# Altium integrated library NSC Amplifier.IntLib: 737 symbols (part 7 of 19)
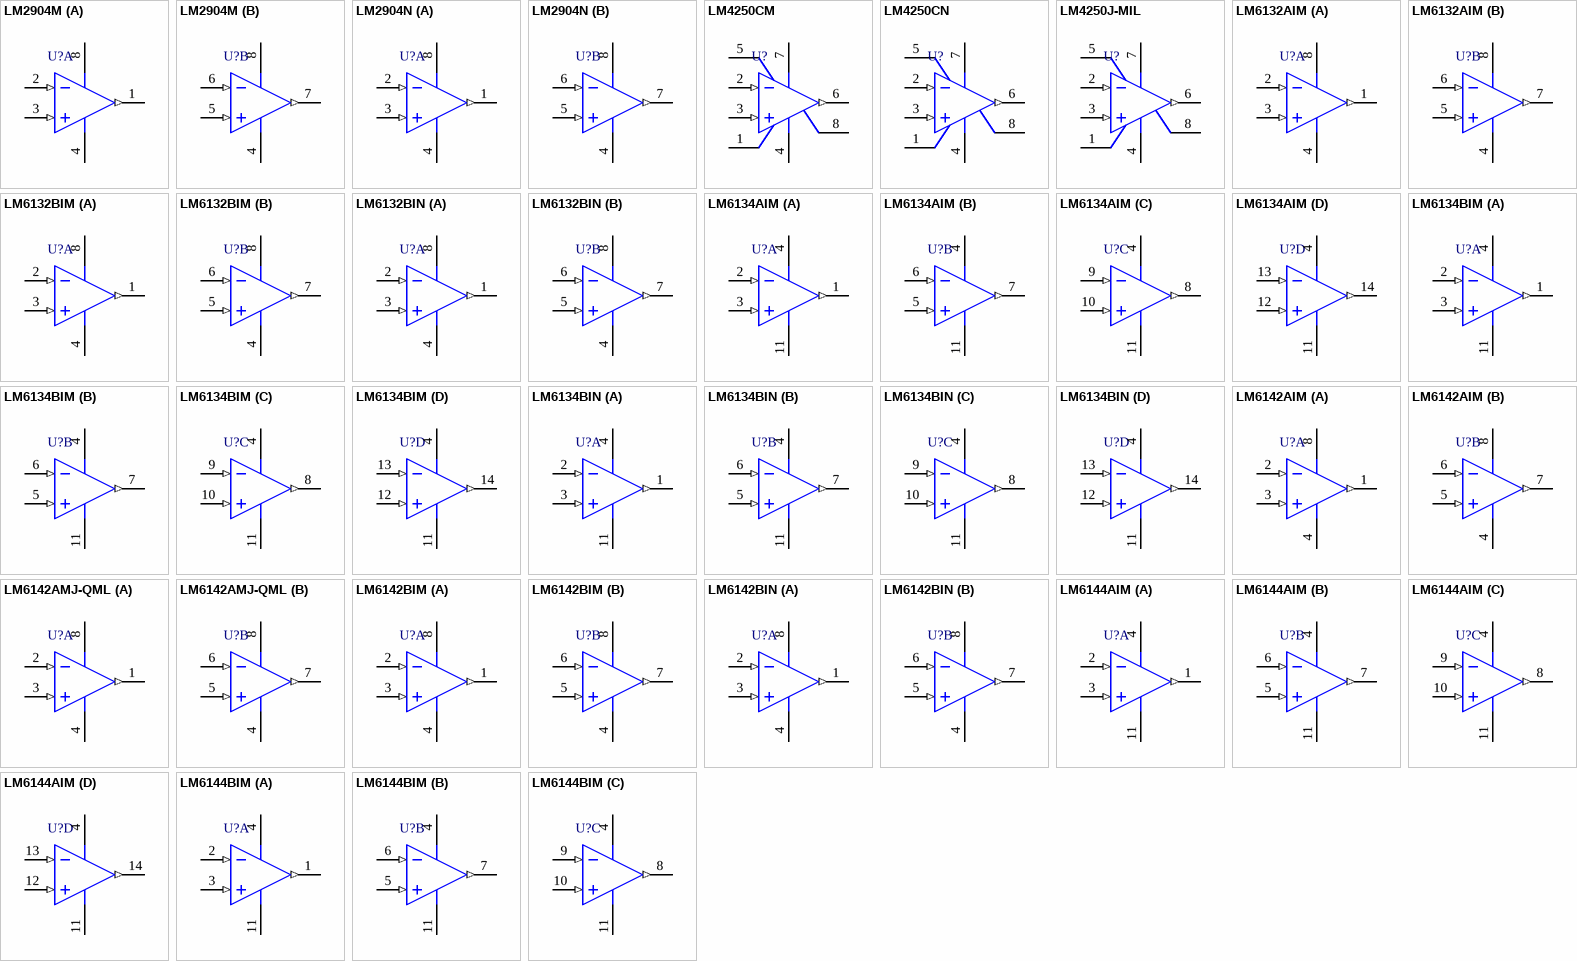
[diagram p45: symbols LM2904M to LM6144BIM]

## LM6142BIM
designator U?
Dual High Speed/Low Power 17 MHz Rail-to-Rail I/O Operational Amplifier; PartNumber: LM6142BIM; Manufacturer: National Semiconductor; CompType: Amplifiers; PackageTopMarking: NSZXTT*LM614*2BIM; PowerWise: N; Published: 4-Dec-2008; LatestRevisionDate: 13-Jan-2009; LatestRevisionNote: Sim Model Added.; DatasheetVersion: Nov-2004; PackageVersion: revL, Sep-2006; PackageReference: M08A; Publisher: Altium Limited; PackageDescription: SOIC Narrow, 4.9 x 3.9 x 1.45mm, 8 Lead, 1.27mm Pitch; RoHS: O; PinCount: 8; DigiKeyPartNumber: LM6142BIM-ND; Code_JEDEC: MS-012-AA; Code_IPC: SOIC127P600-8; ComponentLink1Description: LM6142 Datasheet; ComponentLink1URL: http://www.national.com/ds/LM/LM6142.pdf; ComponentLink2Description: LM6142 Web Page; ComponentLink2URL: http://www.national.com/pf/LM/LM6142.html; ComponentLink3Description: M08A Package Page; ComponentLink3URL: http://www.national.com/packaging/folders/m08a.html
footprint M08A_N (SOIC, 8-Leads, Body 4.9x3.9mm, Pitch 1.27mm, IPC Medium Density)
footprint M08A_L (SOIC, 8-Leads, Body 4.9x3.9mm, Pitch 1.27mm, IPC High Density)
footprint M08A_M (SOIC, 8-Leads, Body 4.9x3.9mm, Pitch 1.27mm, IPC Low Density)
simulation model LM6142B (SUBCKT)
pins on every part: 4 V- (power), 8 V+ (power)
part A pins: 1 OUTA (out), 2 INA- (in), 3 INA+ (in)
part B pins: 5 INB+ (in), 6 INB- (in), 7 OUTB (out)

## LM6142BIN
designator U?
Dual High Speed/Low Power 17 MHz Rail-to-Rail I/O Operational Amplifier; PartNumber: LM6142BIN; Manufacturer: National Semiconductor; CompType: Amplifiers; PackageTopMarking: NSUZXYTT*LM6142*BIN; PowerWise: N; Published: 4-Dec-2008; LatestRevisionDate: 13-Jan-2009; LatestRevisionNote: Sim Model Added.; DatasheetVersion: Nov-2004; PackageVersion: revG, May-2006; PackageReference: N08E; Publisher: Altium Limited; PackageDescription: MDIP, .365 x .250 x .130in, 8 Lead, .100in Pitch; RoHS: Y; PinCount: 8; DigiKeyPartNumber: LM6142BIN-ND; Code_JEDEC: MS-001-BA; ComponentLink1Description: LM6142 Datasheet; ComponentLink1URL: http://www.national.com/ds/LM/LM6142.pdf; ComponentLink2Description: LM6142 Web Page; ComponentLink2URL: http://www.national.com/pf/LM/LM6142.html; ComponentLink3Description: N08E Package Page; ComponentLink3URL: http://www.national.com/packaging/folders/n08e.html
footprint N08E (DIP, 8-Leads, Row Spacing 7.62mm, Pitch 2.54mm, Body 9.91x6.35mm)
simulation model LM6142B (SUBCKT)
pins on every part: 4 V- (power), 8 V+ (power)
part A pins: 1 OUTA (out), 2 INA- (in), 3 INA+ (in)
part B pins: 5 INB+ (in), 6 INB- (in), 7 OUTB (out)

## LM6144AIM
designator U?
Quad High Speed/Low Power 17 MHz Rail-to-Rail I/O Operational Amplifier; PartNumber: LM6144AIM; Manufacturer: National Semiconductor; CompType: Amplifiers; PackageTopMarking: NSUZXYTT*LM6144*AIM; PowerWise: N; Published: 4-Dec-2008; LatestRevisionDate: 13-Jan-2009; LatestRevisionNote: Sim Model Added.; DatasheetVersion: Nov-2004; PackageVersion: revJ, Jan-1996; PackageReference: M14A; Publisher: Altium Limited; PackageDescription: Molded Package S.O., .150in Wide, 14 Lead; RoHS: O; PinCount: 14; DigiKeyPartNumber: LM6144AIM-ND; Code_JEDEC: MS-012AB; Code_IPC: SOIC127P600-14; ComponentLink1Description: LM6144 Datasheet; ComponentLink1URL: http://www.national.com/ds/LM/LM6144.pdf; ComponentLink2Description: LM6144 Web Page; ComponentLink2URL: http://www.national.com/pf/LM/LM6144.html; ComponentLink3Description: M14A Package Page; ComponentLink3URL: http://www.national.com/packaging/folders/m14a.html
footprint M14A_N (SOIC, 14-Leads, Body 8.6x3.9mm, Pitch 1.27mm, IPC Medium Density)
footprint M14A_L (SOIC, 14-Leads, Body 8.6x3.9mm, Pitch 1.27mm, IPC High Density)
footprint M14A_M (SOIC, 14-Leads, Body 8.6x3.9mm, Pitch 1.27mm, IPC Low Density)
simulation model LM6142A (SUBCKT)
pins on every part: 4 V+ (power), 11 V- (power)
part A pins: 1 OUTA (out), 2 INA- (in), 3 INA+ (in)
part B pins: 5 INB+ (in), 6 INB- (in), 7 OUTB (out)
part C pins: 8 OUTC (out), 9 INC- (in), 10 INC+ (in)
part D pins: 12 IND+ (in), 13 IND- (in), 14 OUTD (out)

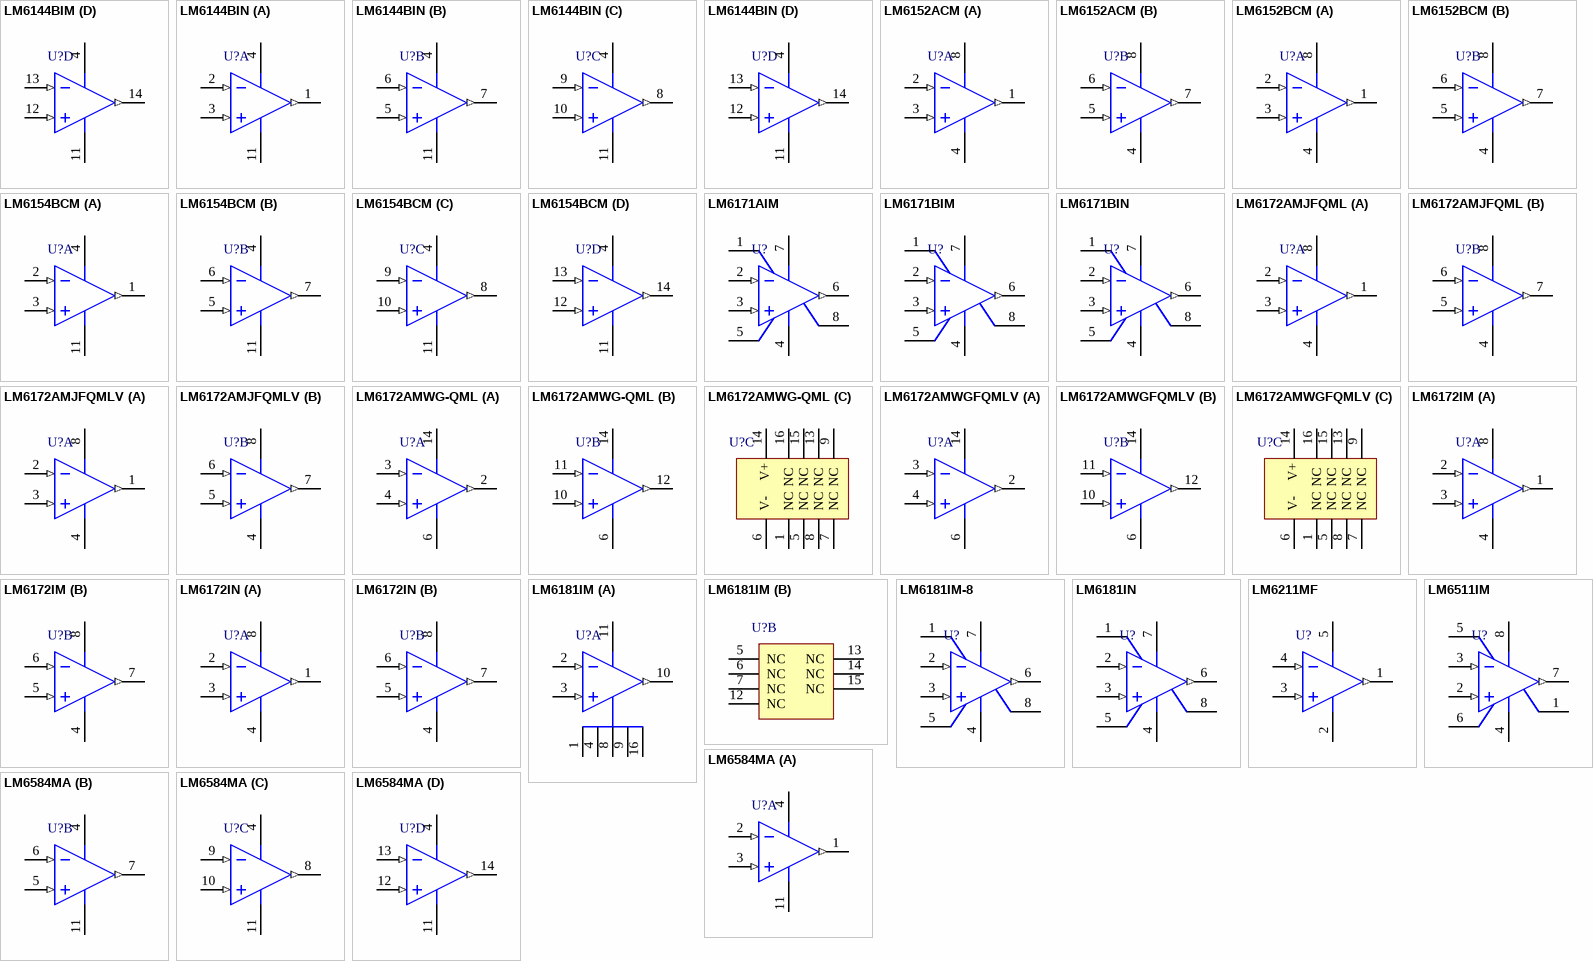
[diagram p16: symbols LM6144BIM to LM6584MA]

## LM6144BIM
designator U?
Quad High Speed/Low Power 17 MHz Rail-to-Rail I/O Operational Amplifier; PartNumber: LM6144BIM; Manufacturer: National Semiconductor; CompType: Amplifiers; PackageTopMarking: NSUZXYTT*LM6144*BIM; PowerWise: N; Published: 4-Dec-2008; LatestRevisionDate: 13-Jan-2009; LatestRevisionNote: Sim Model Added.; DatasheetVersion: Nov-2004; PackageVersion: revJ, Jan-1996; PackageReference: M14A; Publisher: Altium Limited; PackageDescription: Molded Package S.O., .150in Wide, 14 Lead; RoHS: O; PinCount: 14; DigiKeyPartNumber: LM6144BIM-ND; Code_JEDEC: MS-012AB; Code_IPC: SOIC127P600-14; ComponentLink1Description: LM6144 Datasheet; ComponentLink1URL: http://www.national.com/ds/LM/LM6144.pdf; ComponentLink2Description: LM6144 Web Page; ComponentLink2URL: http://www.national.com/pf/LM/LM6144.html; ComponentLink3Description: M14A Package Page; ComponentLink3URL: http://www.national.com/packaging/folders/m14a.html
footprint M14A_N (SOIC, 14-Leads, Body 8.6x3.9mm, Pitch 1.27mm, IPC Medium Density)
footprint M14A_L (SOIC, 14-Leads, Body 8.6x3.9mm, Pitch 1.27mm, IPC High Density)
footprint M14A_M (SOIC, 14-Leads, Body 8.6x3.9mm, Pitch 1.27mm, IPC Low Density)
simulation model LM6142B (SUBCKT)
pins on every part: 4 V+ (power), 11 V- (power)
part A pins: 1 OUTA (out), 2 INA- (in), 3 INA+ (in)
part B pins: 5 INB+ (in), 6 INB- (in), 7 OUTB (out)
part C pins: 8 OUTC (out), 9 INC- (in), 10 INC+ (in)
part D pins: 12 IND+ (in), 13 IND- (in), 14 OUTD (out)

## LM6144BIN
designator U?
Quad High Speed/Low Power 17 MHz Rail-to-Rail I/O Operational Amplifier; PartNumber: LM6144BIN; Manufacturer: National Semiconductor; CompType: Amplifiers; PackageTopMarking: NSUZXYYTTE#*LM6144BIN; PowerWise: N; Published: 4-Dec-2008; LatestRevisionDate: 13-Jan-2009; LatestRevisionNote: Sim Model Added.; DatasheetVersion: Nov-2004; PackageVersion: revG, May-2006; PackageReference: N14A; Publisher: Altium Limited; PackageDescription: MDIP, .750 x .250 x.130in, 14 Lead, .100in Pitch; RoHS: O; PinCount: 14; DigiKeyPartNumber: LM6144BIN-ND; Code_JEDEC: MS-001-AA; ComponentLink1Description: LM6144 Datasheet; ComponentLink1URL: http://www.national.com/ds/LM/LM6144.pdf; ComponentLink2Description: LM6144 Web Page; ComponentLink2URL: http://www.national.com/pf/LM/LM6144.html; ComponentLink3Description: N14A Package Page; ComponentLink3URL: http://www.national.com/packaging/folders/n14a.html
footprint N14A (DIP, 14-Leads, Row Spacing 7.62mm, Pitch 2.54mm, Body 19.56x6.35mm)
simulation model LM6142B (SUBCKT)
pins on every part: 4 V+ (power), 11 V- (power)
part A pins: 1 OUTA (out), 2 INA- (in), 3 INA+ (in)
part B pins: 5 INB+ (in), 6 INB- (in), 7 OUTB (out)
part C pins: 8 OUTC (out), 9 INC- (in), 10 INC+ (in)
part D pins: 12 IND+ (in), 13 IND- (in), 14 OUTD (out)

## LM6152ACM
designator U?
Dual and Quad 75 MHz GBW Rail-to-Rail I/O Operational Amplifiers; PartNumber: LM6152ACM; Manufacturer: National Semiconductor; PackageTopMarking: NSZXTT*LM61*52ACM; PowerWise: Y; Published: 4-Dec-2008; LatestRevisionDate: 13-Jan-2009; LatestRevisionNote: Sim Model Added.; DatasheetVersion: Feb-2006; PackageVersion: revL, Sep-2006; PackageReference: M08A; Publisher: Altium Limited; PackageDescription: SOIC Narrow, 4.9 x 3.9 x 1.45mm, 8 Lead, 1.27mm Pitch; CompType: Amplifiers; RoHS: O; PinCount: 8; DigiKeyPartNumber: LM6152ACM-ND; Code_JEDEC: MS-012-AA; Code_IPC: SOIC127P600-8; ComponentLink1Description: LM6152 Datasheet; ComponentLink1URL: http://www.national.com/ds/LM/LM6152.pdf; ComponentLink2Description: LM6152 Web Page; ComponentLink2URL: http://www.national.com/pf/LM/LM6152.html; ComponentLink3Description: M08A Package Page; ComponentLink3URL: http://www.national.com/packaging/folders/m08a.html
footprint M08A_N (SOIC, 8-Leads, Body 4.9x3.9mm, Pitch 1.27mm, IPC Medium Density)
footprint M08A_L (SOIC, 8-Leads, Body 4.9x3.9mm, Pitch 1.27mm, IPC High Density)
footprint M08A_M (SOIC, 8-Leads, Body 4.9x3.9mm, Pitch 1.27mm, IPC Low Density)
simulation model LM6152A (SUBCKT)
pins on every part: 4 V- (power), 8 V+ (power)
part A pins: 1 OUTA (out), 2 INA- (in), 3 INA+ (in)
part B pins: 5 INB+ (in), 6 INB- (in), 7 OUTB (out)

## LM6152BCM
designator U?
Dual and Quad 75 MHz GBW Rail-to-Rail I/O Operational Amplifiers; PartNumber: LM6152BCM; Manufacturer: National Semiconductor; PackageTopMarking: NSZXTT*LM61*52BCM; PowerWise: Y; Published: 4-Dec-2008; LatestRevisionDate: 13-Jan-2009; LatestRevisionNote: Sim Model Added.; DatasheetVersion: Feb-2006; PackageVersion: revL, Sep-2006; PackageReference: M08A; Publisher: Altium Limited; PackageDescription: SOIC Narrow, 4.9 x 3.9 x 1.45mm, 8 Lead, 1.27mm Pitch; CompType: Amplifiers; RoHS: O; PinCount: 8; DigiKeyPartNumber: LM6152BCM-ND; Code_JEDEC: MS-012-AA; Code_IPC: SOIC127P600-8; ComponentLink1Description: LM6152 Datasheet; ComponentLink1URL: http://www.national.com/ds/LM/LM6152.pdf; ComponentLink2Description: LM6152 Web Page; ComponentLink2URL: http://www.national.com/pf/LM/LM6152.html; ComponentLink3Description: M08A Package Page; ComponentLink3URL: http://www.national.com/packaging/folders/m08a.html
footprint M08A_N (SOIC, 8-Leads, Body 4.9x3.9mm, Pitch 1.27mm, IPC Medium Density)
footprint M08A_L (SOIC, 8-Leads, Body 4.9x3.9mm, Pitch 1.27mm, IPC High Density)
footprint M08A_M (SOIC, 8-Leads, Body 4.9x3.9mm, Pitch 1.27mm, IPC Low Density)
simulation model LM6152B (SUBCKT)
pins on every part: 4 V- (power), 8 V+ (power)
part A pins: 1 OUTA (out), 2 INA- (in), 3 INA+ (in)
part B pins: 5 INB+ (in), 6 INB- (in), 7 OUTB (out)

## LM6154BCM
designator U?
Dual and Quad 75 MHz GBW Rail-to-Rail I/O Operational Amplifiers; PartNumber: LM6154BCM; Manufacturer: National Semiconductor; PackageTopMarking: NSUZXYTT*LM6154BCM; PowerWise: Y; Published: 4-Dec-2008; LatestRevisionDate: 13-Jan-2009; LatestRevisionNote: Sim Model Added.; DatasheetVersion: Feb-2006; PackageVersion: revJ, Jan-1996; PackageReference: M14A; Publisher: Altium Limited; PackageDescription: Molded Package S.O., .150in Wide, 14 Lead; CompType: Amplifiers; RoHS: O; PinCount: 14; DigiKeyPartNumber: LM6154BCM-ND; Code_JEDEC: MS-012AB; Code_IPC: SOIC127P600-14; ComponentLink1Description: LM6154 Datasheet; ComponentLink1URL: http://www.national.com/ds/LM/LM6154.pdf; ComponentLink2Description: LM6154 Web Page; ComponentLink2URL: http://www.national.com/pf/LM/LM6154.html; ComponentLink3Description: M14A Package Page; ComponentLink3URL: http://www.national.com/packaging/folders/m14a.html
footprint M14A_N (SOIC, 14-Leads, Body 8.6x3.9mm, Pitch 1.27mm, IPC Medium Density)
footprint M14A_L (SOIC, 14-Leads, Body 8.6x3.9mm, Pitch 1.27mm, IPC High Density)
footprint M14A_M (SOIC, 14-Leads, Body 8.6x3.9mm, Pitch 1.27mm, IPC Low Density)
simulation model LM6152B (SUBCKT)
pins on every part: 4 V+ (power), 11 V- (power)
part A pins: 1 OUTA (out), 2 INA- (in), 3 INA+ (in)
part B pins: 5 INB+ (in), 6 INB- (in), 7 OUTB (out)
part C pins: 8 OUTC (out), 9 INC- (in), 10 INC+ (in)
part D pins: 12 IND+ (in), 13 IND- (in), 14 OUTD (out)

## LM6171AIM
designator U?
High Speed Low Power Low Distortion Voltage Feedback Amplifier; PartNumber: LM6171AIM; Manufacturer: National Semiconductor; CompType: Amplifiers; PackageTopMarking: NSZXTT*LM61*71AIM; PowerWise: Y; Published: 4-Dec-2008; LatestRevisionDate: 13-Jan-2009; LatestRevisionNote: Sim Model Added.; DatasheetVersion: Feb-2003; PackageVersion: revL, Sep-2006; PackageReference: M08A; Publisher: Altium Limited; PackageDescription: SOIC Narrow, 4.9 x 3.9 x 1.45mm, 8 Lead, 1.27mm Pitch; RoHS: O; PinCount: 8; DigiKeyPartNumber: LM6171AIM-ND; Code_JEDEC: MS-012-AA; Code_IPC: SOIC127P600-8; ComponentLink1Description: LM6171 Datasheet; ComponentLink1URL: http://www.national.com/ds/LM/LM6171.pdf; ComponentLink2Description: LM6171 Web Page; ComponentLink2URL: http://www.national.com/pf/LM/LM6171.html; ComponentLink3Description: M08A Package Page; ComponentLink3URL: http://www.national.com/packaging/folders/m08a.html
footprint M08A_N (SOIC, 8-Leads, Body 4.9x3.9mm, Pitch 1.27mm, IPC Medium Density)
footprint M08A_L (SOIC, 8-Leads, Body 4.9x3.9mm, Pitch 1.27mm, IPC High Density)
footprint M08A_M (SOIC, 8-Leads, Body 4.9x3.9mm, Pitch 1.27mm, IPC Low Density)
simulation model LM6171A (SUBCKT)
pins: 1 NC, 2 IN- (in), 3 IN+ (in), 4 V- (power), 5 NC, 6 OUT (out), 7 V+ (power), 8 NC

## LM6171BIM
designator U?
High Speed Low Power Low Distortion Voltage Feedback Amplifier; PartNumber: LM6171BIM; Manufacturer: National Semiconductor; CompType: Amplifiers; PackageTopMarking: NSZXTT*LM61*71BIM; PowerWise: Y; Published: 4-Dec-2008; LatestRevisionDate: 13-Jan-2009; LatestRevisionNote: Sim Model Added.; DatasheetVersion: Feb-2003; PackageVersion: revL, Sep-2006; PackageReference: M08A; Publisher: Altium Limited; PackageDescription: SOIC Narrow, 4.9 x 3.9 x 1.45mm, 8 Lead, 1.27mm Pitch; RoHS: O; PinCount: 8; DigiKeyPartNumber: LM6171BIM-ND; Code_JEDEC: MS-012-AA; Code_IPC: SOIC127P600-8; ComponentLink1Description: LM6171 Datasheet; ComponentLink1URL: http://www.national.com/ds/LM/LM6171.pdf; ComponentLink2Description: LM6171 Web Page; ComponentLink2URL: http://www.national.com/pf/LM/LM6171.html; ComponentLink3Description: M08A Package Page; ComponentLink3URL: http://www.national.com/packaging/folders/m08a.html
footprint M08A_N (SOIC, 8-Leads, Body 4.9x3.9mm, Pitch 1.27mm, IPC Medium Density)
footprint M08A_L (SOIC, 8-Leads, Body 4.9x3.9mm, Pitch 1.27mm, IPC High Density)
footprint M08A_M (SOIC, 8-Leads, Body 4.9x3.9mm, Pitch 1.27mm, IPC Low Density)
simulation model LM6171B (SUBCKT)
pins: 1 NC, 2 IN- (in), 3 IN+ (in), 4 V- (power), 5 NC, 6 OUT (out), 7 V+ (power), 8 NC

## LM6171BIN
designator U?
High Speed Low Power Low Distortion Voltage Feedback Amplifier; PartNumber: LM6171BIN; Manufacturer: National Semiconductor; CompType: Amplifiers; PackageTopMarking: NSUZXYTT*LM6171*BIN; PowerWise: Y; Published: 4-Dec-2008; LatestRevisionDate: 13-Jan-2009; LatestRevisionNote: Sim Model Added.; DatasheetVersion: Feb-2003; PackageVersion: revG, May-2006; PackageReference: N08E; Publisher: Altium Limited; PackageDescription: MDIP, .365 x .250 x .130in, 8 Lead, .100in Pitch; RoHS: O; PinCount: 8; DigiKeyPartNumber: LM6171BIN-ND; Code_JEDEC: MS-001-BA; ComponentLink1Description: LM6171 Datasheet; ComponentLink1URL: http://www.national.com/ds/LM/LM6171.pdf; ComponentLink2Description: LM6171 Web Page; ComponentLink2URL: http://www.national.com/pf/LM/LM6171.html; ComponentLink3Description: N08E Package Page; ComponentLink3URL: http://www.national.com/packaging/folders/n08e.html
footprint N08E (DIP, 8-Leads, Row Spacing 7.62mm, Pitch 2.54mm, Body 9.91x6.35mm)
simulation model LM6171B (SUBCKT)
pins: 1 NC, 2 IN- (in), 3 IN+ (in), 4 V- (power), 5 NC, 6 OUT (out), 7 V+ (power), 8 NC

## LM6172AMJFQML
designator U?
Dual High Speed, Low Power, Low Distortion Voltage Feedback Amplifiers; PartNumber: LM6172AMJFQML; Manufacturer: National Semiconductor; PackageTopMarking: NSZSSXXYYA*LM6172AMJF*QML Q 5962F*9560401QPA; PowerWise: Y; Published: 4-Dec-2008; DatasheetVersion: Sep-2004; PackageVersion: revM, Jul-2002; PackageReference: J08A; Publisher: Altium Limited; PackageDescription: Cerdip, .400 x .310in Body, 8 Lead, .300in Centers, .100in Pitch; CompType: Amplifiers; RoHS: N; PinCount: 8; ComponentLink1Description: LM6172 Datasheet; ComponentLink1URL: http://www.national.com/ds/LM/LM6172.pdf; ComponentLink2Description: LM6172 Web Page; ComponentLink2URL: http://www.national.com/pf/LM/LM6172.html; ComponentLink3Description: J08A Package Page; ComponentLink3URL: http://www.national.com/packaging/folders/j08a.html
footprint J08A (DIP, 8-Leads, Row Spacing 7.62mm, Pitch 2.54mm, Body 9.78x6.73mm)
pins on every part: 4 V- (power), 8 V+ (power)
part A pins: 1 OUTA (out), 2 INA- (in), 3 INA+ (in)
part B pins: 5 INB+ (in), 6 INB- (in), 7 OUTB (out)

## LM6172AMJFQMLV
designator U?
Dual High Speed, Low Power, Low Distortion Voltage Feedback Amplifiers; PartNumber: LM6172AMJFQMLV; Manufacturer: National Semiconductor; PackageTopMarking: NSZSSXXYYA*LM6172AMJF*QV Q 5962F*9560401VPA; PowerWise: Y; Published: 4-Dec-2008; LatestRevisionDate: 13-Jan-2009; LatestRevisionNote: Sim Model Added.; DatasheetVersion: Sep-2004; PackageVersion: revM, Jul-2002; PackageReference: J08A; Publisher: Altium Limited; PackageDescription: Cerdip, .400 x .310in Body, 8 Lead, .300in Centers, .100in Pitch; CompType: Amplifiers; RoHS: N; PinCount: 8; ComponentLink1Description: LM6172 Datasheet; ComponentLink1URL: http://www.national.com/ds/LM/LM6172.pdf; ComponentLink2Description: LM6172 Web Page; ComponentLink2URL: http://www.national.com/pf/LM/LM6172.html; ComponentLink3Description: J08A Package Page; ComponentLink3URL: http://www.national.com/packaging/folders/j08a.html
footprint J08A (DIP, 8-Leads, Row Spacing 7.62mm, Pitch 2.54mm, Body 9.78x6.73mm)
simulation model LM6172 (SUBCKT)
pins on every part: 4 V- (power), 8 V+ (power)
part A pins: 1 OUTA (out), 2 INA- (in), 3 INA+ (in)
part B pins: 5 INB+ (in), 6 INB- (in), 7 OUTB (out)

## LM6172AMWG-QML
designator U?
Dual High Speed, Low Power, Low Distortion Voltage Feedback Amplifier; PartNumber: LM6172AMWG-QML; Manufacturer: National Semiconductor; CompType: Amplifiers; PackageTopMarking: NSZSSXXYYA*LM6172AMWG*-QML 5962-*9560401QXA Q; PowerWise: Y; MilaeroCode: B88; Published: 29-May-2009; DatasheetVersion: Sep-2004; PackageVersion: revE, Jul-2007; PackageReference: WG16A; Publisher: Altium Limited; PackageDescription: Cerpack, .390 x .250 x .070in, 16 Lead, .050in Pitch, Gull Wing; RoHS: N; PinCount: 16; ComponentLink1Description: LM6172 Datasheet; ComponentLink1URL: http://www.national.com/ds/LM/LM6172.pdf; ComponentLink2Description: LM6172 Web Page; ComponentLink2URL: http://www.national.com/mpf/LM/LM6172.html; ComponentLink3Description: WG16A Package Page; ComponentLink3URL: http://www.national.com/packaging/folders/wg16a.html
footprint WG16A_N (CERPACK, 16-Leads, Body 9.9x6.5mm, Pitch 1.27mm, IPC Medium Density)
footprint WG16A_L (CERPACK, 16-Leads, Body 9.9x6.5mm, Pitch 1.27mm, IPC High Density)
footprint WG16A_M (CERPACK, 16-Leads, Body 9.9x6.5mm, Pitch 1.27mm, IPC Low Density)
simulation model LM6172 (SUBCKT)
pins on every part: 6 V- (power), 14 V+ (power)
part A pins: 2 OUTA (out), 3 INA- (in), 4 INA+ (in)
part B pins: 10 INB+ (in), 11 INB- (in), 12 OUTB (out)
part C pins: 1 NC, 5 NC, 7 NC, 8 NC, 9 NC, 13 NC, 15 NC, 16 NC

## LM6172AMWGFQMLV
designator U?
Dual High Speed, Low Power, Low Distortion Voltage Feedback Amplifier; PartNumber: LM6172AMWGFQMLV; Manufacturer: National Semiconductor; CompType: Amplifiers; PackageTopMarking: NSZSSXXYYA*LM6172AMWGF*QV Q 5962F*9560401VXA; PowerWise: Y; MilaeroCode: DXX; Published: 29-May-2009; DatasheetVersion: Sep-2004; PackageVersion: revE, Jul-2007; PackageReference: WG16A; Publisher: Altium Limited; PackageDescription: Cerpack, .390 x .250 x .070in, 16 Lead, .050in Pitch, Gull Wing; RoHS: N; PinCount: 16; ComponentLink1Description: LM6172 Datasheet; ComponentLink1URL: http://www.national.com/ds/LM/LM6172.pdf; ComponentLink2Description: LM6172 Web Page; ComponentLink2URL: http://www.national.com/mpf/LM/LM6172.html; ComponentLink3Description: WG16A Package Page; ComponentLink3URL: http://www.national.com/packaging/folders/wg16a.html
footprint WG16A_N (CERPACK, 16-Leads, Body 9.9x6.5mm, Pitch 1.27mm, IPC Medium Density)
footprint WG16A_L (CERPACK, 16-Leads, Body 9.9x6.5mm, Pitch 1.27mm, IPC High Density)
footprint WG16A_M (CERPACK, 16-Leads, Body 9.9x6.5mm, Pitch 1.27mm, IPC Low Density)
simulation model LM6172 (SUBCKT)
pins on every part: 6 V- (power), 14 V+ (power)
part A pins: 2 OUTA (out), 3 INA- (in), 4 INA+ (in)
part B pins: 10 INB+ (in), 11 INB- (in), 12 OUTB (out)
part C pins: 1 NC, 5 NC, 7 NC, 8 NC, 9 NC, 13 NC, 15 NC, 16 NC

## LM6172IM
designator U?
Dual High Speed, Low Power, Low Distortion Voltage Feedback Amplifiers; PartNumber: LM6172IM; Manufacturer: National Semiconductor; PackageTopMarking: NSZXTT*LM61*72IM; PowerWise: Y; Published: 4-Dec-2008; LatestRevisionDate: 13-Jan-2009; LatestRevisionNote: Sim Model Added.; DatasheetVersion: Sep-2004; PackageVersion: revL, Sep-2006; PackageReference: M08A; Publisher: Altium Limited; PackageDescription: SOIC Narrow, 4.9 x 3.9 x 1.45mm, 8 Lead, 1.27mm Pitch; CompType: Amplifiers; RoHS: O; PinCount: 8; DigiKeyPartNumber: LM6172IMXCT-ND; Code_JEDEC: MS-012-AA; Code_IPC: SOIC127P600-8; ComponentLink1Description: LM6172 Datasheet; ComponentLink1URL: http://www.national.com/ds/LM/LM6172.pdf; ComponentLink2Description: LM6172 Web Page; ComponentLink2URL: http://www.national.com/pf/LM/LM6172.html; ComponentLink3Description: M08A Package Page; ComponentLink3URL: http://www.national.com/packaging/folders/m08a.html
footprint M08A_N (SOIC, 8-Leads, Body 4.9x3.9mm, Pitch 1.27mm, IPC Medium Density)
footprint M08A_L (SOIC, 8-Leads, Body 4.9x3.9mm, Pitch 1.27mm, IPC High Density)
footprint M08A_M (SOIC, 8-Leads, Body 4.9x3.9mm, Pitch 1.27mm, IPC Low Density)
simulation model LM6172 (SUBCKT)
pins on every part: 4 V- (power), 8 V+ (power)
part A pins: 1 OUTA (out), 2 INA- (in), 3 INA+ (in)
part B pins: 5 INB+ (in), 6 INB- (in), 7 OUTB (out)

## LM6172IN
designator U?
Dual High Speed, Low Power, Low Distortion Voltage Feedback Amplifiers; PartNumber: LM6172IN; Manufacturer: National Semiconductor; PackageTopMarking: NSUZXYTT*LM6172IN; PowerWise: Y; Published: 4-Dec-2008; LatestRevisionDate: 13-Jan-2009; LatestRevisionNote: Sim Model Added.; DatasheetVersion: Sep-2004; PackageVersion: revG, May-2006; PackageReference: N08E; Publisher: Altium Limited; PackageDescription: MDIP, .365 x .250 x .130in, 8 Lead, .100in Pitch; CompType: Amplifiers; RoHS: O; PinCount: 8; DigiKeyPartNumber: LM6172IN-ND; Code_JEDEC: MS-001-BA; ComponentLink1Description: LM6172 Datasheet; ComponentLink1URL: http://www.national.com/ds/LM/LM6172.pdf; ComponentLink2Description: LM6172 Web Page; ComponentLink2URL: http://www.national.com/pf/LM/LM6172.html; ComponentLink3Description: N08E Package Page; ComponentLink3URL: http://www.national.com/packaging/folders/n08e.html
footprint N08E (DIP, 8-Leads, Row Spacing 7.62mm, Pitch 2.54mm, Body 9.91x6.35mm)
simulation model LM6172 (SUBCKT)
pins on every part: 4 V- (power), 8 V+ (power)
part A pins: 1 OUTA (out), 2 INA- (in), 3 INA+ (in)
part B pins: 5 INB+ (in), 6 INB- (in), 7 OUTB (out)

## LM6181IM
designator U?
100 mA, 100 MHz Current Feedback Amplifier; PartNumber: LM6181IM; Manufacturer: National Semiconductor; CompType: Amplifiers; PackageTopMarking: NSUZXYTT*LM6181IM; Published: 4-Dec-2008; DatasheetVersion: May-1998; PackageVersion: revJ, Aug-1995; PackageReference: M16A; Publisher: Altium Limited; PackageDescription: Molded Package, SO, .150in Wide, 16 Lead; RoHS: O; PinCount: 16; DigiKeyPartNumber: LM6181IM-ND; Code_JEDEC: MS-012-AC; Code_IPC: SOIC127P600-16; ComponentLink1Description: LM6181 Datasheet; ComponentLink1URL: http://www.national.com/ds/LM/LM6181.pdf; ComponentLink2Description: LM6181 Web Page; ComponentLink2URL: http://www.national.com/pf/LM/LM6181.html; ComponentLink3Description: M16A Package Page; ComponentLink3URL: http://www.national.com/packaging/folders/m16a.html
footprint M16A_N (SOIC, 16-Leads, Body 9.9x3.9mm, Pitch 1.27mm, IPC Medium Density)
footprint M16A_L (SOIC, 16-Leads, Body 9.9x3.9mm, Pitch 1.27mm, IPC High Density)
footprint M16A_M (SOIC, 16-Leads, Body 9.9x3.9mm, Pitch 1.27mm, IPC Low Density)
part A pins: 1 V- (power), 2 IN- (in), 3 IN+ (in), 4 V- (power), 8 V- (power), 9 V- (power), 10 OUT (out), 11 V+ (power), 16 V- (power)
part B pins: 5 NC, 6 NC, 7 NC, 12 NC, 13 NC, 14 NC, 15 NC

## LM6181IM-8
designator U?
100 mA, 100 MHz Current Feedback Amplifier; PartNumber: LM6181IM-8; Manufacturer: National Semiconductor; CompType: Amplifiers; PackageTopMarking: NSZXTT*LM618*1IM8; PowerWise: N; Published: 4-Dec-2008; LatestRevisionDate: 13-Jan-2009; LatestRevisionNote: Sim Model Added.; DatasheetVersion: May-1998; PackageVersion: revL, Sep-2006; PackageReference: M08A; Publisher: Altium Limited; PackageDescription: SOIC Narrow, 4.9 x 3.9 x 1.45mm, 8 Lead, 1.27mm Pitch; RoHS: O; PinCount: 8; DigiKeyPartNumber: LM6181IM-8-ND; Code_JEDEC: MS-012-AA; Code_IPC: SOIC127P600-8; ComponentLink1Description: LM6181 Datasheet; ComponentLink1URL: http://www.national.com/ds/LM/LM6181.pdf; ComponentLink2Description: LM6181 Web Page; ComponentLink2URL: http://www.national.com/pf/LM/LM6181.html; ComponentLink3Description: M08A Package Page; ComponentLink3URL: http://www.national.com/packaging/folders/m08a.html
footprint M08A_N (SOIC, 8-Leads, Body 4.9x3.9mm, Pitch 1.27mm, IPC Medium Density)
footprint M08A_L (SOIC, 8-Leads, Body 4.9x3.9mm, Pitch 1.27mm, IPC High Density)
footprint M08A_M (SOIC, 8-Leads, Body 4.9x3.9mm, Pitch 1.27mm, IPC Low Density)
simulation model LM6181 (SUBCKT)
pins: 1 NC, 2 IN- (in), 3 IN+ (in), 4 V- (power), 5 NC, 6 OUT (out), 7 V+ (power), 8 NC

## LM6181IN
designator U?
100 mA, 100 MHz Current Feedback Amplifier; PartNumber: LM6181IN; Manufacturer: National Semiconductor; CompType: Amplifiers; PackageTopMarking: NSUZXYTT*LM6181IN; PowerWise: N; Published: 4-Dec-2008; LatestRevisionDate: 13-Jan-2009; LatestRevisionNote: Sim Model Added.; DatasheetVersion: May-1998; PackageVersion: revG, May-2006; PackageReference: N08E; Publisher: Altium Limited; PackageDescription: MDIP, .365 x .250 x .130in, 8 Lead, .100in Pitch; RoHS: Y; PinCount: 8; DigiKeyPartNumber: LM6181IN-ND; Code_JEDEC: MS-001-BA; ComponentLink1Description: LM6181 Datasheet; ComponentLink1URL: http://www.national.com/ds/LM/LM6181.pdf; ComponentLink2Description: LM6181 Web Page; ComponentLink2URL: http://www.national.com/pf/LM/LM6181.html; ComponentLink3Description: N08E Package Page; ComponentLink3URL: http://www.national.com/packaging/folders/n08e.html
footprint N08E (DIP, 8-Leads, Row Spacing 7.62mm, Pitch 2.54mm, Body 9.91x6.35mm)
simulation model LM6181 (SUBCKT)
pins: 1 NC, 2 IN- (in), 3 IN+ (in), 4 V- (power), 5 NC, 6 OUT (out), 7 V+ (power), 8 NC

## LM6211MF
designator U?
Low Noise, RRO Operational Amplifier with CMOS Input and 24V Operation; PartNumber: LM6211MF; Manufacturer: National Semiconductor; CompType: Amplifiers; PackageTopMarking: AT1A*XTT; PowerWise: Y; Published: 4-Dec-2008; LatestRevisionDate: 13-Jan-2009; LatestRevisionNote: Sim Model Added.; DatasheetVersion: Jun-2006; PackageVersion: revD, Aug-2008; PackageReference: MF05A; Publisher: Altium Limited; PackageDescription: Molded SOT-23, .115 x .063 x .040 in Body, 5 Lead, .0375 in Pitch; RoHS: Y; PinCount: 5; DigiKeyPartNumber: LM6211MFCT-ND; Code_IPC: SOT23-5; ComponentLink1Description: LM6211 Datasheet; ComponentLink1URL: http://www.national.com/ds/LM/LM6211.pdf; ComponentLink2Description: LM6211 Web Page; ComponentLink2URL: http://www.national.com/pf/LM/LM6211.html; ComponentLink3Description: MF05A Package Page; ComponentLink3URL: http://www.national.com/packaging/folders/mf05a.html
footprint MF05A_N (SOT23, 5-Leads, Body 2.9x1.6mm, Pitch 0.95mm, Lead Span 2.8mm, IPC Medium Density)
footprint MF05A_L (SOT23, 5-Leads, Body 2.9x1.6mm, Pitch 0.95mm, Lead Span 2.8mm, IPC High Density)
footprint MF05A_M (SOT23, 5-Leads, Body 2.9x1.6mm, Pitch 0.95mm, Lead Span 2.8mm, IPC Low Density)
simulation model LM6211 (SUBCKT)
pins: 1 VOUT (out), 2 V- (power), 3 IN+ (in), 4 IN- (in), 5 V+ (power)

## LM6511IM
designator U?
180 ns 3V Comparator; PartNumber: LM6511IM; Manufacturer: National Semiconductor; CompType: Amplifiers; PackageTopMarking: NSZXTT*LM65*11IM; PowerWise: N; Published: 4-Dec-2008; DatasheetVersion: Mar-2003; PackageVersion: revL, Sep-2006; PackageReference: M08A; Publisher: Altium Limited; PackageDescription: SOIC Narrow, 4.9 x 3.9 x 1.45mm, 8 Lead, 1.27mm Pitch; RoHS: O; PinCount: 8; DigiKeyPartNumber: LM6511IM-ND; Code_JEDEC: MS-012-AA; Code_IPC: SOIC127P600-8; ComponentLink1Description: LM6511 Datasheet; ComponentLink1URL: http://www.national.com/ds/LM/LM6511.pdf; ComponentLink2Description: LM6511 Web Page; ComponentLink2URL: http://www.national.com/pf/LM/LM6511.html; ComponentLink3Description: M08A Package Page; ComponentLink3URL: http://www.national.com/packaging/folders/m08a.html
footprint M08A_N (SOIC, 8-Leads, Body 4.9x3.9mm, Pitch 1.27mm, IPC Medium Density)
footprint M08A_L (SOIC, 8-Leads, Body 4.9x3.9mm, Pitch 1.27mm, IPC High Density)
footprint M08A_M (SOIC, 8-Leads, Body 4.9x3.9mm, Pitch 1.27mm, IPC Low Density)
pins: 1 GND (power), 2 IN+ (in), 3 IN- (in), 4 V- (power), 5 BAL, 6 BAL/STB, 7 OUT (out), 8 V+ (power)

## LM6584MA
designator U?
TFT-LCD Quad, 13V RRIO High Output Current Operational Amplifier; PartNumber: LM6584MA; Manufacturer: National Semiconductor; CompType: Amplifiers; PackageTopMarking: NSUZXYTT*LM6584MA; PowerWise: N; Published: 4-Dec-2008; DatasheetVersion: Mar-2005; PackageVersion: revJ, Jan-1996; PackageReference: M14A; Publisher: Altium Limited; PackageDescription: Molded Package S.O., .150in Wide, 14 Lead; RoHS: Y; PinCount: 14; DigiKeyPartNumber: LM6584MAX-ND; Code_JEDEC: MS-012AB; Code_IPC: SOIC127P600-14; ComponentLink1Description: LM6584 Datasheet; ComponentLink1URL: http://www.national.com/ds/LM/LM6584.pdf; ComponentLink2Description: LM6584 Web Page; ComponentLink2URL: http://www.national.com/pf/LM/LM6584.html; ComponentLink3Description: M14A Package Page; ComponentLink3URL: http://www.national.com/packaging/folders/m14a.html
footprint M14A_N (SOIC, 14-Leads, Body 8.6x3.9mm, Pitch 1.27mm, IPC Medium Density)
footprint M14A_L (SOIC, 14-Leads, Body 8.6x3.9mm, Pitch 1.27mm, IPC High Density)
footprint M14A_M (SOIC, 14-Leads, Body 8.6x3.9mm, Pitch 1.27mm, IPC Low Density)
pins on every part: 4 V+ (power), 11 V- (power)
part A pins: 1 OUTA (out), 2 INA- (in), 3 INA+ (in)
part B pins: 5 INB+ (in), 6 INB- (in), 7 OUTB (out)
part C pins: 8 OUTC (out), 9 INC- (in), 10 INC+ (in)
part D pins: 12 IND+ (in), 13 IND- (in), 14 OUTD (out)

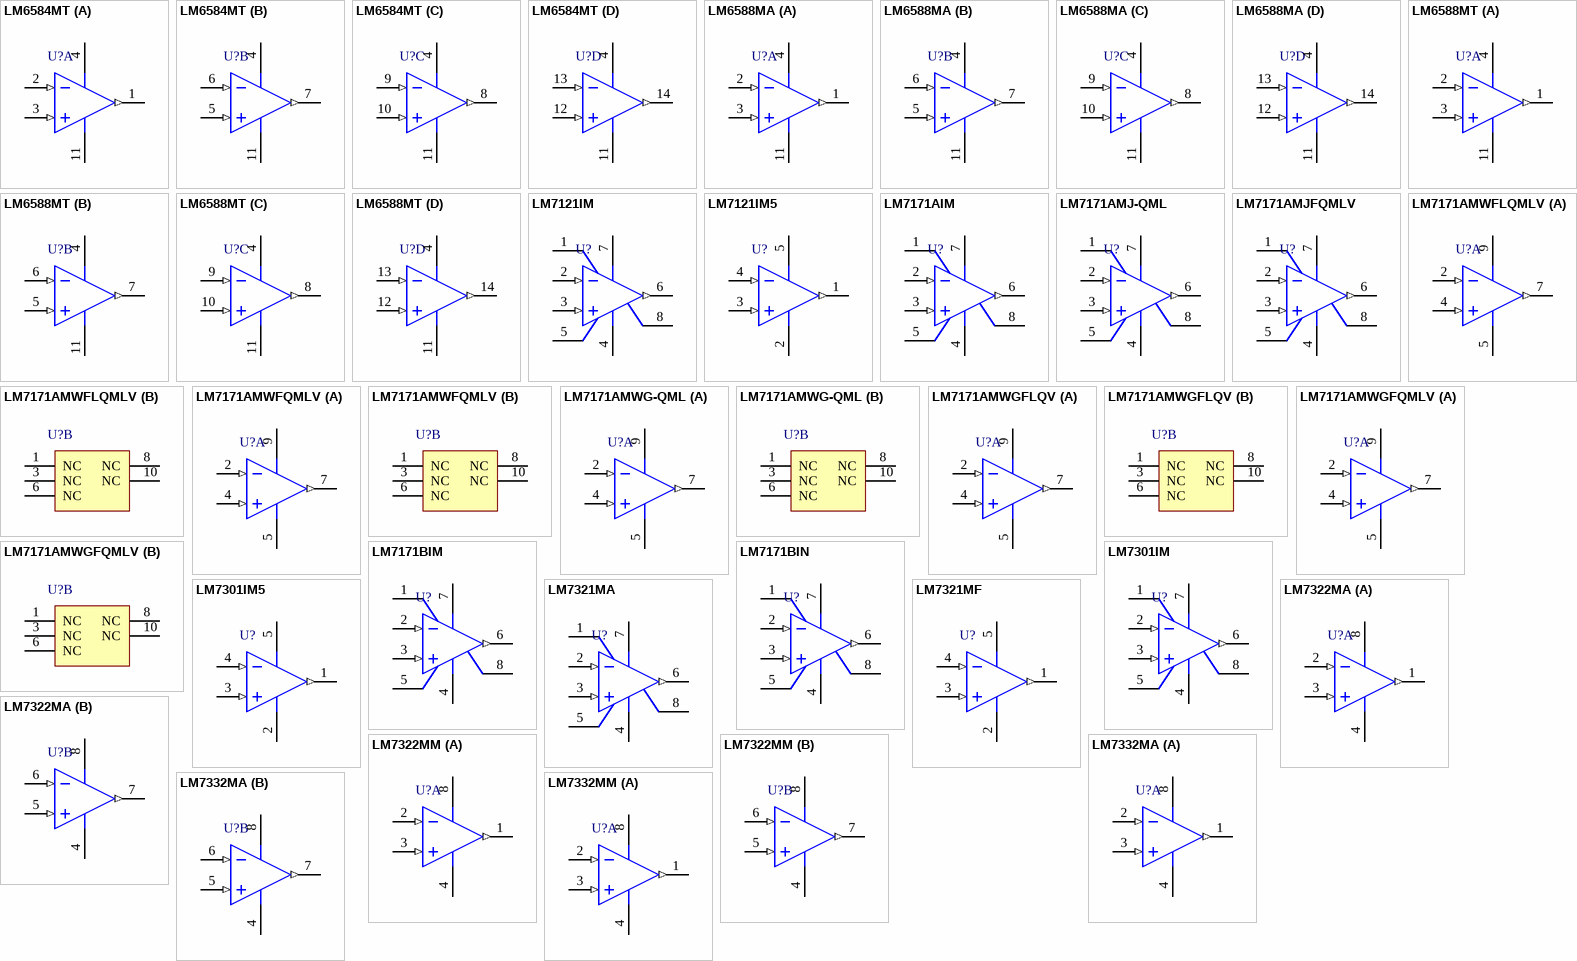
[diagram p17: symbols LM6584MT to LM7332MM]

## LM6584MT
designator U?
TFT-LCD Quad, 13V RRIO High Output Current Operational Amplifier; PartNumber: LM6584MT; Manufacturer: National Semiconductor; CompType: Amplifiers; PackageTopMarking: NSZXYTT*LM658*4MT; PowerWise: N; Published: 4-Dec-2008; DatasheetVersion: Mar-2005; PackageVersion: revD, Jun-2003; PackageReference: MTC14; Publisher: Altium Limited; PackageDescription: Molded TSSOP, JEDEC, 5 x 4.4 x 0.9mm Body, 14 Lead, 0.65mm Pitch; RoHS: Y; PinCount: 14; DigiKeyPartNumber: LM6584MTX-ND; Code_JEDEC: MO-153-AB-1; ComponentLink1Description: LM6584 Datasheet; ComponentLink1URL: http://www.national.com/ds/LM/LM6584.pdf; ComponentLink2Description: LM6584 Web Page; ComponentLink2URL: http://www.national.com/pf/LM/LM6584.html; ComponentLink3Description: MTC14 Package Page; ComponentLink3URL: http://www.national.com/packaging/folders/mtc14.html
footprint MTC14_N (TSOP, 14-Leads, Body 5x4.4mm, Pitch 0.65mm, IPC Medium Density)
footprint MTC14_L (TSOP, 14-Leads, Body 5x4.4mm, Pitch 0.65mm, IPC High Density)
footprint MTC14_M (TSOP, 14-Leads, Body 5x4.4mm, Pitch 0.65mm, IPC Low Density)
pins on every part: 4 V+ (power), 11 V- (power)
part A pins: 1 OUTA (out), 2 INA- (in), 3 INA+ (in)
part B pins: 5 INB+ (in), 6 INB- (in), 7 OUTB (out)
part C pins: 8 OUTC (out), 9 INC- (in), 10 INC+ (in)
part D pins: 12 IND+ (in), 13 IND- (in), 14 OUTD (out)

## LM6588MA
designator U?
Quad 16 Volt, RRIO High Output Current Operational Amplifier; PartNumber: LM6588MA; Manufacturer: National Semiconductor; CompType: Amplifiers; PackageTopMarking: NSUZXYTT*LM6588MA; PowerWise: N; Published: 4-Dec-2008; DatasheetVersion: Jul-2005; PackageVersion: revJ, Jan-1996; PackageReference: M14A; Publisher: Altium Limited; PackageDescription: Molded Package S.O., .150in Wide, 14 Lead; RoHS: O; PinCount: 14; DigiKeyPartNumber: LM6588MAX-ND; Code_JEDEC: MS-012AB; Code_IPC: SOIC127P600-14; ComponentLink1Description: LM6588 Datasheet; ComponentLink1URL: http://www.national.com/ds/LM/LM6588.pdf; ComponentLink2Description: LM6588 Web Page; ComponentLink2URL: http://www.national.com/pf/LM/LM6588.html; ComponentLink3Description: M14A Package Page; ComponentLink3URL: http://www.national.com/packaging/folders/m14a.html
footprint M14A_N (SOIC, 14-Leads, Body 8.6x3.9mm, Pitch 1.27mm, IPC Medium Density)
footprint M14A_L (SOIC, 14-Leads, Body 8.6x3.9mm, Pitch 1.27mm, IPC High Density)
footprint M14A_M (SOIC, 14-Leads, Body 8.6x3.9mm, Pitch 1.27mm, IPC Low Density)
pins on every part: 4 V+ (power), 11 V- (power)
part A pins: 1 OUTA (out), 2 INA- (in), 3 INA+ (in)
part B pins: 5 INB+ (in), 6 INB- (in), 7 OUTB (out)
part C pins: 8 OUTC (out), 9 INC- (in), 10 INC+ (in)
part D pins: 12 IND+ (in), 13 IND- (in), 14 OUTD (out)

## LM6588MT
designator U?
Quad 16 Volt, RRIO High Output Current Operational Amplifier; PartNumber: LM6588MT; Manufacturer: National Semiconductor; CompType: Amplifiers; PackageTopMarking: NSZXYTT*LM658*8MT; PowerWise: N; Published: 4-Dec-2008; DatasheetVersion: Jul-2005; PackageVersion: revD, Jun-2003; PackageReference: MTC14; Publisher: Altium Limited; PackageDescription: Molded TSSOP, JEDEC, 5 x 4.4 x 0.9mm Body, 14 Lead, 0.65mm Pitch; RoHS: Y; PinCount: 14; DigiKeyPartNumber: LM6588MTX-ND; Code_JEDEC: MO-153-AB-1; ComponentLink1Description: LM6588 Datasheet; ComponentLink1URL: http://www.national.com/ds/LM/LM6588.pdf; ComponentLink2Description: LM6588 Web Page; ComponentLink2URL: http://www.national.com/pf/LM/LM6588.html; ComponentLink3Description: MTC14 Package Page; ComponentLink3URL: http://www.national.com/packaging/folders/mtc14.html
footprint MTC14_N (TSOP, 14-Leads, Body 5x4.4mm, Pitch 0.65mm, IPC Medium Density)
footprint MTC14_L (TSOP, 14-Leads, Body 5x4.4mm, Pitch 0.65mm, IPC High Density)
footprint MTC14_M (TSOP, 14-Leads, Body 5x4.4mm, Pitch 0.65mm, IPC Low Density)
pins on every part: 4 V+ (power), 11 V- (power)
part A pins: 1 OUTA (out), 2 INA- (in), 3 INA+ (in)
part B pins: 5 INB+ (in), 6 INB- (in), 7 OUTB (out)
part C pins: 8 OUTC (out), 9 INC- (in), 10 INC+ (in)
part D pins: 12 IND+ (in), 13 IND- (in), 14 OUTD (out)

## LM7121IM
designator U?
175 MHz Tiny Low Power Voltage Feedback Amplifier; PartNumber: LM7121IM; Manufacturer: National Semiconductor; CompType: Amplifiers; PackageTopMarking: NSZXTT*LM71*21IM; PowerWise: Y; Published: 4-Dec-2008; LatestRevisionDate: 13-Jan-2009; LatestRevisionNote: Sim Model Added.; DatasheetVersion: Aug-1999; PackageVersion: revL, Sep-2006; PackageReference: M08A; Publisher: Altium Limited; PackageDescription: SOIC Narrow, 4.9 x 3.9 x 1.45mm, 8 Lead, 1.27mm Pitch; RoHS: O; PinCount: 8; DigiKeyPartNumber: LM7121IM5CT-ND; Code_JEDEC: MS-012-AA; Code_IPC: SOIC127P600-8; ComponentLink1Description: LM7121 Datasheet; ComponentLink1URL: http://www.national.com/ds/LM/LM7121.pdf; ComponentLink2Description: LM7121 Web Page; ComponentLink2URL: http://www.national.com/pf/LM/LM7121.html; ComponentLink3Description: M08A Package Page; ComponentLink3URL: http://www.national.com/packaging/folders/m08a.html
footprint M08A_N (SOIC, 8-Leads, Body 4.9x3.9mm, Pitch 1.27mm, IPC Medium Density)
footprint M08A_L (SOIC, 8-Leads, Body 4.9x3.9mm, Pitch 1.27mm, IPC High Density)
footprint M08A_M (SOIC, 8-Leads, Body 4.9x3.9mm, Pitch 1.27mm, IPC Low Density)
simulation model LM7121 (SUBCKT)
pins: 1 NC, 2 IN- (in), 3 IN+ (in), 4 V- (power), 5 NC, 6 OUT (out), 7 V+ (power), 8 NC

## LM7121IM5
designator U?
175 MHz Tiny Low Power Voltage Feedback Amplifier; PartNumber: LM7121IM5; Manufacturer: National Semiconductor; CompType: Amplifiers; PackageTopMarking: A03A*XTT; PowerWise: Y; Published: 4-Dec-2008; LatestRevisionDate: 13-Jan-2009; LatestRevisionNote: Sim Model Added.; DatasheetVersion: Aug-1999; PackageVersion: revD, Aug-2008; PackageReference: MF05A; Publisher: Altium Limited; PackageDescription: Molded SOT-23, .115 x .063 x .040 in Body, 5 Lead, .0375 in Pitch; RoHS: O; PinCount: 5; DigiKeyPartNumber: LM7121IM5CT-ND; Code_IPC: SOT23-5; ComponentLink1Description: LM7121 Datasheet; ComponentLink1URL: http://www.national.com/ds/LM/LM7121.pdf; ComponentLink2Description: LM7121 Web Page; ComponentLink2URL: http://www.national.com/pf/LM/LM7121.html; ComponentLink3Description: MF05A Package Page; ComponentLink3URL: http://www.national.com/packaging/folders/mf05a.html
footprint MF05A_N (SOT23, 5-Leads, Body 2.9x1.6mm, Pitch 0.95mm, Lead Span 2.8mm, IPC Medium Density)
footprint MF05A_L (SOT23, 5-Leads, Body 2.9x1.6mm, Pitch 0.95mm, Lead Span 2.8mm, IPC High Density)
footprint MF05A_M (SOT23, 5-Leads, Body 2.9x1.6mm, Pitch 0.95mm, Lead Span 2.8mm, IPC Low Density)
simulation model LM7121 (SUBCKT)
pins: 1 OUT (out), 2 V- (power), 3 IN+ (in), 4 IN- (in), 5 V+ (power)

## LM7171AIM
designator U?
Very High Speed, High Output Current, Voltage Feedback Amplifier; PartNumber: LM7171AIM; Manufacturer: National Semiconductor; CompType: Amplifiers; PackageTopMarking: NSZXTT*LM71*71AIM; PowerWise: N; Published: 4-Dec-2008; LatestRevisionDate: 13-Jan-2009; LatestRevisionNote: Sim Model Added.; DatasheetVersion: May-2006; PackageVersion: revL, Sep-2006; PackageReference: M08A; Publisher: Altium Limited; PackageDescription: SOIC Narrow, 4.9 x 3.9 x 1.45mm, 8 Lead, 1.27mm Pitch; RoHS: O; PinCount: 8; DigiKeyPartNumber: LM7171AIM-ND; Code_JEDEC: MS-012-AA; Code_IPC: SOIC127P600-8; ComponentLink1Description: LM7171 Datasheet; ComponentLink1URL: http://www.national.com/ds/LM/LM7171.pdf; ComponentLink2Description: LM7171 Web Page; ComponentLink2URL: http://www.national.com/pf/LM/LM7171.html; ComponentLink3Description: M08A Package Page; ComponentLink3URL: http://www.national.com/packaging/folders/m08a.html
footprint M08A_N (SOIC, 8-Leads, Body 4.9x3.9mm, Pitch 1.27mm, IPC Medium Density)
footprint M08A_L (SOIC, 8-Leads, Body 4.9x3.9mm, Pitch 1.27mm, IPC High Density)
footprint M08A_M (SOIC, 8-Leads, Body 4.9x3.9mm, Pitch 1.27mm, IPC Low Density)
simulation model LM7171A (SUBCKT)
pins: 1 NC, 2 IN- (in), 3 IN+ (in), 4 V- (power), 5 NC, 6 OUT (out), 7 V+ (power), 8 NC

## LM7171AMJ-QML
designator U?
Very High Speed, High Output Current, Voltage Feedback Amplifier; PartNumber: LM7171AMJ-QML; Manufacturer: National Semiconductor; CompType: Amplifiers; PackageTopMarking: NSZSSXXYYA*LM7171AMJ-*QML Q 5962-*9553601QPA; PowerWise: N; Published: 4-Dec-2008; LatestRevisionDate: 13-Jan-2009; LatestRevisionNote: Sim Model Added.; DatasheetVersion: May-2006; PackageVersion: revM, Jul-2002; PackageReference: J08A; Publisher: Altium Limited; PackageDescription: Cerdip, .400 x .310in Body, 8 Lead, .300in Centers, .100in Pitch; RoHS: N; PinCount: 8; ComponentLink1Description: LM7171 Datasheet; ComponentLink1URL: http://www.national.com/ds/LM/LM7171.pdf; ComponentLink2Description: LM7171 Web Page; ComponentLink2URL: http://www.national.com/pf/LM/LM7171.html; ComponentLink3Description: J08A Package Page; ComponentLink3URL: http://www.national.com/packaging/folders/j08a.html
footprint J08A (DIP, 8-Leads, Row Spacing 7.62mm, Pitch 2.54mm, Body 9.78x6.73mm)
simulation model LM7171A (SUBCKT)
pins: 1 NC, 2 IN- (in), 3 IN+ (in), 4 V- (power), 5 NC, 6 OUT (out), 7 V+ (power), 8 NC

## LM7171AMJFQMLV
designator U?
Very High Speed, High Output Current, Voltage Feedback Amplifier; PartNumber: LM7171AMJFQMLV; Manufacturer: National Semiconductor; CompType: Amplifiers; PackageTopMarking: NSZSSXXYYA*LM7171AMJF*QV Q 5962F*9553601VPA; PowerWise: N; Published: 4-Dec-2008; LatestRevisionDate: 13-Jan-2009; LatestRevisionNote: Sim Model Added.; DatasheetVersion: May-2006; PackageVersion: revM, Jul-2002; PackageReference: J08A; Publisher: Altium Limited; PackageDescription: Cerdip, .400 x .310in Body, 8 Lead, .300in Centers, .100in Pitch; RoHS: N; PinCount: 8; ComponentLink1Description: LM7171 Datasheet; ComponentLink1URL: http://www.national.com/ds/LM/LM7171.pdf; ComponentLink2Description: LM7171 Web Page; ComponentLink2URL: http://www.national.com/pf/LM/LM7171.html; ComponentLink3Description: J08A Package Page; ComponentLink3URL: http://www.national.com/packaging/folders/j08a.html
footprint J08A (DIP, 8-Leads, Row Spacing 7.62mm, Pitch 2.54mm, Body 9.78x6.73mm)
simulation model LM7171A (SUBCKT)
pins: 1 NC, 2 IN- (in), 3 IN+ (in), 4 V- (power), 5 NC, 6 OUT (out), 7 V+ (power), 8 NC

## LM7171AMWFLQMLV
designator U?
Very High Speed, High Output Current, Voltage Feedback Amplifier; PartNumber: LM7171AMWFLQMLV; Manufacturer: National Semiconductor; CompType: Amplifiers; PackageTopMarking: NSZSSXXYYA*5962F*9553602VHA*LM7171AM*WFLQV Q; PowerWise: N; MilaeroCode: DXX; Published: 9-Oct-2009; DatasheetVersion: Feb-2009; PackageVersion: revH, Sep-2003; PackageReference: W10A; Publisher: Altium Limited; PackageDescription: Cerpack, .270 x .241 x .067in Body, 10 Lead, .050in Pitch; RoHS: N; PinCount: 10; Code_JEDEC: MS-033-AA; ComponentLink1Description: LM7171 Datasheet; ComponentLink1URL: http://www.national.com/ds/LM/LM7171QML.pdf; ComponentLink2Description: LM7171QML Web Page; ComponentLink2URL: http://www.national.com/mpf/LM/LM7171QML.html; ComponentLink3Description: W10A Package Page; ComponentLink3URL: http://www.national.com/packaging/folders/w10a.html
footprint W10A (DFP; 10 Leads; Body 6.9 x 6.9 mm (LxW max); Pitch 1.27 mm)
simulation model LM7171A/NS (SUBCKT)
part A pins: 2 IN- (in), 4 IN+ (in), 5 V- (power), 7 OUT (out), 9 V+ (power)
part B pins: 1 NC, 3 NC, 6 NC, 8 NC, 10 NC

## LM7171AMWFQMLV
designator U?
Very High Speed, High Output Current, Voltage Feedback Amplifier; PartNumber: LM7171AMWFQMLV; Manufacturer: National Semiconductor; CompType: Amplifiers; PackageTopMarking: NS5962F*9553601V*HALM7171*AMWFQV Q*ZSSXXYYA; PowerWise: N; MilaeroCode: DXX; Published: 29-May-2009; DatasheetVersion: Feb-2009; PackageVersion: revH, Sep-2003; PackageReference: W10A; Publisher: Altium Limited; PackageDescription: Cerpack, .270 x .241 x .067in Body, 10 Lead, .050in Pitch; RoHS: N; PinCount: 10; Code_JEDEC: MS-033-AA; ComponentLink1Description: LM7171 Datasheet; ComponentLink1URL: http://www.national.com/ds/LM/LM7171QML.pdf; ComponentLink2Description: LM7171 Web Page; ComponentLink2URL: http://www.national.com/mpf/LM/LM7171.html; ComponentLink3Description: W10A Package Page; ComponentLink3URL: http://www.national.com/packaging/folders/w10a.html
footprint W10A (DFP; 10 Leads; Body 6.9 x 6.9 mm (LxW max); Pitch 1.27 mm)
simulation model LM7171A (SUBCKT)
part A pins: 2 IN- (in), 4 IN+ (in), 5 V- (power), 7 OUT (out), 9 V+ (power)
part B pins: 1 NC, 3 NC, 6 NC, 8 NC, 10 NC

## LM7171AMWG-QML
designator U?
Very High Speed, High Output Current, Voltage Feedback Amplifier; PartNumber: LM7171AMWG-QML; Manufacturer: National Semiconductor; CompType: Amplifiers; PackageTopMarking: NS*ZSSXXYYA*LM7171AM*WG Q 955*3601QXA; PowerWise: N; MilaeroCode: B88; Published: 29-May-2009; DatasheetVersion: Feb-2009; PackageVersion: revF, Oct-2008; PackageReference: WG10A; Publisher: Altium Limited; PackageDescription: Cerpack, .270 x .241 x .070in, 10 Lead, .050in Pitch, Gull Wing; RoHS: N; PinCount: 10; ComponentLink1Description: LM7171 Datasheet; ComponentLink1URL: http://www.national.com/ds/LM/LM7171QML.pdf; ComponentLink2Description: LM7171 Web Page; ComponentLink2URL: http://www.national.com/mpf/LM/LM7171.html; ComponentLink3Description: WG10A Package Page; ComponentLink3URL: http://www.national.com/packaging/folders/wg10a.html
footprint WG10A_N (CERPACK, 10-Leads, Body 6.9x6.3mm, Pitch 1.27mm, IPC Medium Density)
footprint WG10A_L (CERPACK, 10-Leads, Body 6.9x6.3mm, Pitch 1.27mm, IPC High Density)
footprint WG10A_M (CERPACK, 10-Leads, Body 6.9x6.3mm, Pitch 1.27mm, IPC Low Density)
simulation model LM7171A (SUBCKT)
part A pins: 2 IN- (in), 4 IN+ (in), 5 V- (power), 7 OUT (out), 9 V+ (power)
part B pins: 1 NC, 3 NC, 6 NC, 8 NC, 10 NC

## LM7171AMWGFLQV
designator U?
Very High Speed, High Output Current, Voltage Feedback Amplifier; PartNumber: LM7171AMWGFLQV; Manufacturer: National Semiconductor; CompType: Amplifiers; PackageTopMarking: NS5962F9*553602VXA*LM7171AM*WGFLQV Q*ZSSXXYYA; PowerWise: N; MilaeroCode: DXX; Published: 9-Oct-2009; DatasheetVersion: Feb-2009; PackageVersion: revF, Oct-2008; PackageReference: WG10A; Publisher: Altium Limited; PackageDescription: Cerpack, .270 x .241 x .070in, 10 Lead, .050in Pitch, Gull Wing; RoHS: N; PinCount: 10; ComponentLink1Description: LM7171 Datasheet; ComponentLink1URL: http://www.national.com/ds/LM/LM7171QML.pdf; ComponentLink2Description: LM7171QML Web Page; ComponentLink2URL: http://www.national.com/mpf/LM/LM7171QML.html; ComponentLink3Description: WG10A Package Page; ComponentLink3URL: http://www.national.com/packaging/folders/wg10a.html
footprint WG10A_N (CERPACK, 10-Leads, Body 6.9x6.3mm, Pitch 1.27mm, IPC Medium Density)
footprint WG10A_L (CERPACK, 10-Leads, Body 6.9x6.3mm, Pitch 1.27mm, IPC High Density)
footprint WG10A_M (CERPACK, 10-Leads, Body 6.9x6.3mm, Pitch 1.27mm, IPC Low Density)
simulation model LM7171A/NS (SUBCKT)
part A pins: 2 IN- (in), 4 IN+ (in), 5 V- (power), 7 OUT (out), 9 V+ (power)
part B pins: 1 NC, 3 NC, 6 NC, 8 NC, 10 NC

## LM7171AMWGFQMLV
designator U?
Very High Speed, High Output Current, Voltage Feedback Amplifier; PartNumber: LM7171AMWGFQMLV; Manufacturer: National Semiconductor; CompType: Amplifiers; PackageTopMarking: NS5962F9*553601VXA*LM7171AM*WGFQV Q*ZSSXXYYA; PowerWise: N; MilaeroCode: DXX; Published: 29-May-2009; DatasheetVersion: Feb-2009; PackageVersion: revF, Oct-2008; PackageReference: WG10A; Publisher: Altium Limited; PackageDescription: Cerpack, .270 x .241 x .070in, 10 Lead, .050in Pitch, Gull Wing; RoHS: N; PinCount: 10; ComponentLink1Description: LM7171 Datasheet; ComponentLink1URL: http://www.national.com/ds/LM/LM7171QML.pdf; ComponentLink2Description: LM7171 Web Page; ComponentLink2URL: http://www.national.com/mpf/LM/LM7171.html; ComponentLink3Description: WG10A Package Page; ComponentLink3URL: http://www.national.com/packaging/folders/wg10a.html
footprint WG10A_N (CERPACK, 10-Leads, Body 6.9x6.3mm, Pitch 1.27mm, IPC Medium Density)
footprint WG10A_L (CERPACK, 10-Leads, Body 6.9x6.3mm, Pitch 1.27mm, IPC High Density)
footprint WG10A_M (CERPACK, 10-Leads, Body 6.9x6.3mm, Pitch 1.27mm, IPC Low Density)
simulation model LM7171A (SUBCKT)
part A pins: 2 IN- (in), 4 IN+ (in), 5 V- (power), 7 OUT (out), 9 V+ (power)
part B pins: 1 NC, 3 NC, 6 NC, 8 NC, 10 NC

## LM7171BIM
designator U?
Very High Speed, High Output Current, Voltage Feedback Amplifier; PartNumber: LM7171BIM; Manufacturer: National Semiconductor; CompType: Amplifiers; PackageTopMarking: NSZXTT*LM71*71BIM; PowerWise: N; Published: 4-Dec-2008; LatestRevisionDate: 13-Jan-2009; LatestRevisionNote: Sim Model Added.; DatasheetVersion: May-2006; PackageVersion: revL, Sep-2006; PackageReference: M08A; Publisher: Altium Limited; PackageDescription: SOIC Narrow, 4.9 x 3.9 x 1.45mm, 8 Lead, 1.27mm Pitch; RoHS: O; PinCount: 8; DigiKeyPartNumber: LM7171BIM-ND; Code_JEDEC: MS-012-AA; Code_IPC: SOIC127P600-8; ComponentLink1Description: LM7171 Datasheet; ComponentLink1URL: http://www.national.com/ds/LM/LM7171.pdf; ComponentLink2Description: LM7171 Web Page; ComponentLink2URL: http://www.national.com/pf/LM/LM7171.html; ComponentLink3Description: M08A Package Page; ComponentLink3URL: http://www.national.com/packaging/folders/m08a.html
footprint M08A_N (SOIC, 8-Leads, Body 4.9x3.9mm, Pitch 1.27mm, IPC Medium Density)
footprint M08A_L (SOIC, 8-Leads, Body 4.9x3.9mm, Pitch 1.27mm, IPC High Density)
footprint M08A_M (SOIC, 8-Leads, Body 4.9x3.9mm, Pitch 1.27mm, IPC Low Density)
simulation model LM7171B (SUBCKT)
pins: 1 NC, 2 IN- (in), 3 IN+ (in), 4 V- (power), 5 NC, 6 OUT (out), 7 V+ (power), 8 NC

## LM7171BIN
designator U?
Very High Speed, High Output Current, Voltage Feedback Amplifier; PartNumber: LM7171BIN; Manufacturer: National Semiconductor; CompType: Amplifiers; PackageTopMarking: NSUZXYTT*LM7171*BIN; PowerWise: N; Published: 4-Dec-2008; LatestRevisionDate: 13-Jan-2009; LatestRevisionNote: Sim Model Added.; DatasheetVersion: May-2006; PackageVersion: revG, May-2006; PackageReference: N08E; Publisher: Altium Limited; PackageDescription: MDIP, .365 x .250 x .130in, 8 Lead, .100in Pitch; RoHS: O; PinCount: 8; DigiKeyPartNumber: LM7171BIN-ND; Code_JEDEC: MS-001-BA; ComponentLink1Description: LM7171 Datasheet; ComponentLink1URL: http://www.national.com/ds/LM/LM7171.pdf; ComponentLink2Description: LM7171 Web Page; ComponentLink2URL: http://www.national.com/pf/LM/LM7171.html; ComponentLink3Description: N08E Package Page; ComponentLink3URL: http://www.national.com/packaging/folders/n08e.html
footprint N08E (DIP, 8-Leads, Row Spacing 7.62mm, Pitch 2.54mm, Body 9.91x6.35mm)
simulation model LM7171B (SUBCKT)
pins: 1 NC, 2 IN- (in), 3 IN+ (in), 4 V- (power), 5 NC, 6 OUT (out), 7 V+ (power), 8 NC

## LM7301IM
designator U?
Low Power, 4 MHz GBW, Rail-to-Rail Input-Output Operational Amplifier in TinyPak Package; PartNumber: LM7301IM; Manufacturer: National Semiconductor; CompType: Amplifiers; PackageTopMarking: NSZXTT*LM73*01IM; PowerWise: N; Published: 4-Dec-2008; LatestRevisionDate: 13-Jan-2009; LatestRevisionNote: Sim Model Added.; DatasheetVersion: Jun-2006; PackageVersion: revL, Sep-2006; PackageReference: M08A; Publisher: Altium Limited; PackageDescription: SOIC Narrow, 4.9 x 3.9 x 1.45mm, 8 Lead, 1.27mm Pitch; RoHS: O; PinCount: 8; DigiKeyPartNumber: LM7301IM5CT-ND; Code_JEDEC: MS-012-AA; Code_IPC: SOIC127P600-8; ComponentLink1Description: LM7301 Datasheet; ComponentLink1URL: http://www.national.com/ds/LM/LM7301.pdf; ComponentLink2Description: LM7301 Web Page; ComponentLink2URL: http://www.national.com/pf/LM/LM7301.html; ComponentLink3Description: M08A Package Page; ComponentLink3URL: http://www.national.com/packaging/folders/m08a.html
footprint M08A_N (SOIC, 8-Leads, Body 4.9x3.9mm, Pitch 1.27mm, IPC Medium Density)
footprint M08A_L (SOIC, 8-Leads, Body 4.9x3.9mm, Pitch 1.27mm, IPC High Density)
footprint M08A_M (SOIC, 8-Leads, Body 4.9x3.9mm, Pitch 1.27mm, IPC Low Density)
simulation model LM7301 (SUBCKT)
pins: 1 NC, 2 IN- (in), 3 IN+ (in), 4 V- (power), 5 NC, 6 OUT (out), 7 V+ (power), 8 NC